# Altium schematic symbol library mleblang_parts.SchLib: 1 symbol
Pins are listed as number, name and electrical type; pins without a type are passive.

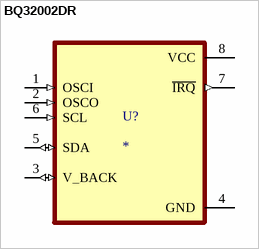
[diagram p0: symbol BQ32002DR]

## BQ32002DR
designator U?
Real-time clock (RTC) with automatic switchover to backup supply; MF: Texas Instruments; MP: BQ32002DR; SnapEDA_Link: https://www.snapeda.com/parts/BQ32002DR/Texas+Instruments/view-part/?ref=snap; Package: SOIC-8 Texas Instruments; Value: *; Check_prices: https://www.snapeda.com/parts/BQ32002DR/Texas+Instruments/view-part/?ref=eda
footprint SOIC127P599X175-8N
pins: 1 OSCI (in), 2 OSCO (in), 3 V_BACK (io), 4 GND (power), 5 SDA (io), 6 SCL (in), 7 ~{IRQ} (out), 8 VCC (power)